# Altium schematic symbol library Power.SchLib: 24 symbols
Pins are listed as number, name and electrical type; pins without a type are passive.

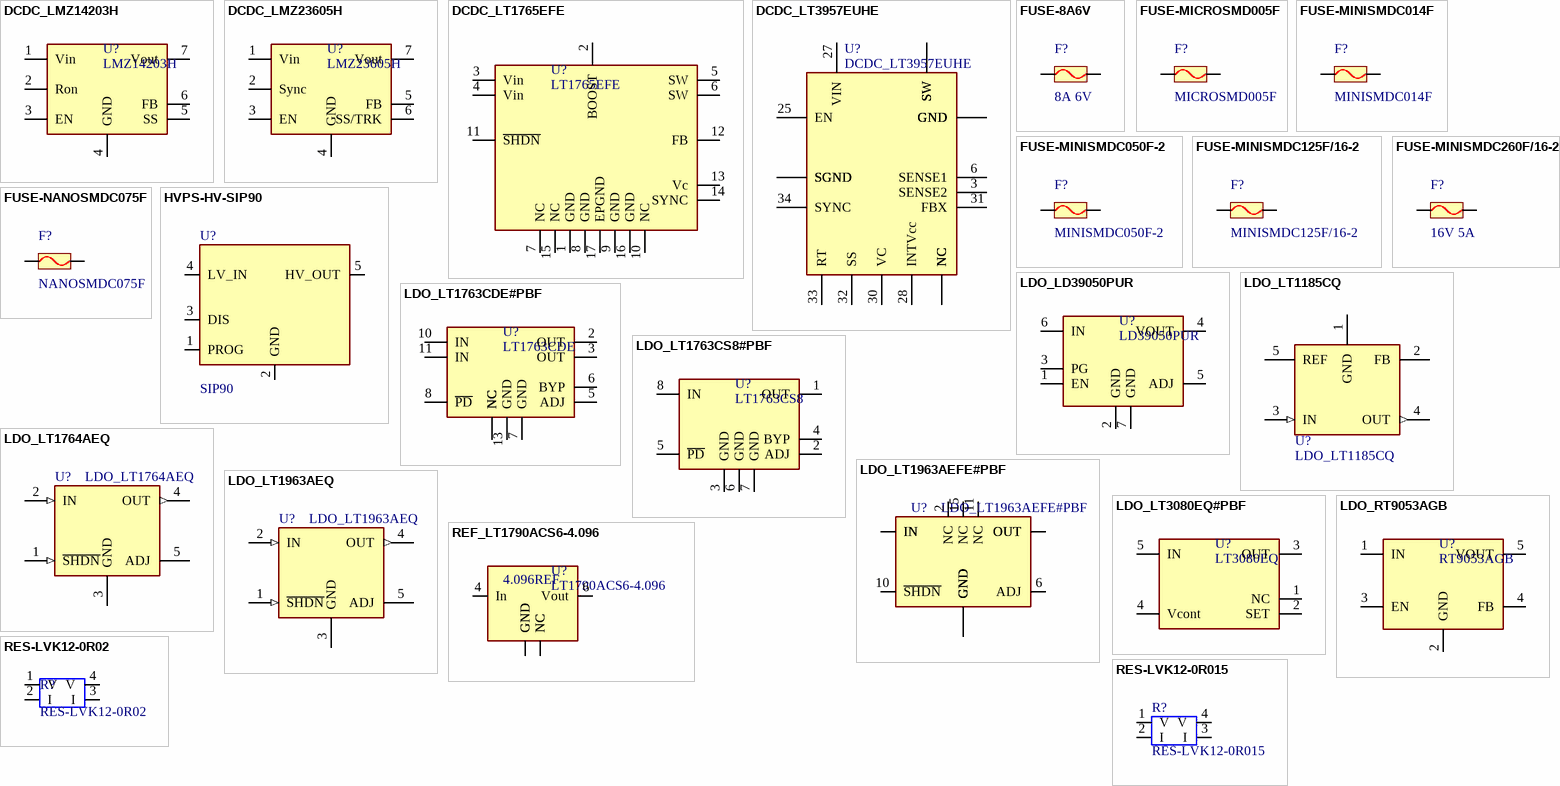
[diagram p0: symbols DCDC_LMZ14203H to RES-LVK12-0R015]

## DCDC_LMZ14203H
designator U?, comment LMZ14203H
3A SIMPLE SWITCHER® Power Module for High Output Voltage; Manufacturer: Texas Instruments; Manufacturer No: LMZ14203HTZ/NOPB; Tech: SMDR; Package: DDPAK7; Supplier 1: Digi-Key; Supplier Part Number 1: LMZ14203HTZE/NOPB-ND; Supplier 2: Mouser; Supplier Part Number 2: 926-LMZ14203HTZ/NOPB
footprint DPAK127P1377X457-7N (D2-PAK, 7-Pads, Body 8.15x8.56mm (max), IPC Medium Density)
pins: 1 Vin, 2 Ron, 3 EN, 4 GND, 5 SS, 6 FB, 7 Vout

## DCDC_LMZ23605H
designator U?, comment LMZ23605H
3A SIMPLE SWITCHER® Power Module for High Output Voltage; Manufacturer: Texas Instruments; Manufacturer No: LMZ23605TZE/NOPB; Tech: SMDR; Package: DDPAK7; Supplier 1: Mouser; Supplier Part Number 1: 926-LMZ23605TZE/NOPB; Supplier 2: Newark; Supplier Part Number 2: 47T7404; Supplier 3: Digi-Key; Supplier Part Number 3: LMZ23605TZ/NOPB-ND
footprint DPAK127P1377X457-7N (D2-PAK, 7-Pads, Body 8.15x8.56mm (max), IPC Medium Density)
pins: 1 Vin, 2 Sync, 3 EN, 4 GND, 5 FB, 6 SS/TRK, 7 Vout

## DCDC_LT1765EFE
designator U?, comment LT1765EFE
Monolithic 3A, 1.25MHz  Step-Down Switching Regulator; Manufacturer: Linear Technology; Manufacturer No: LT1765EFE#PBF; Sort: 510; Tech: SMDR; Package: TSSOP16; Supplier 1: Newark; Supplier Part Number 1: 57M6199; Supplier 2: Digi-Key; Supplier Part Number 2: LT1765EFE#PBF-ND
footprint TSOP65P640X120_HS-16N2 (TSOP, 16-Leads, Body 5,1x4,5mm (max), Pitch 0,65mm, IPC Medium Density)
pins: 1 GND, 2 BOOST, 3 Vin, 4 Vin, 5 SW, 6 SW, 7 NC, 8 GND, 9 GND, 10 NC, 11 ~{SHDN}, 12 FB, 13 Vc, 14 SYNC, 15 NC, 16 GND, 17 EPGND

## DCDC_LT3957EUHE
designator U?
5A Boost/Inverting DC/DC converter; Manufacturer: Linear Technology; Manufacturer No: LT3957EUHE#PBF; Comment2: 3-40Vin, 1.6-40Vout; 5Asw 0.1..1MHz; Tech: SMDR; Package: QFN36; Supplier 1: Digi-Key; Supplier Part Number 1: LT3957EUHE#PBF-ND; Supplier 2: Newark; Supplier Part Number 2: 78R8462
footprint QFN50P600X500X75-36N (QFN, 36-Leads, Body 6,0x5,0mm (max), Pitch 0,50mm, IPC Medium Density)
pins: 1 NC, 2 NC, 3 SENSE2, 4 SGND, 6 SENSE1, 8 SW, 9 SW, 10 NC, 12 GND, 13 GND, 14 GND, 15 GND, 16 GND, 17 GND, 20 SW, 21 SW, 23 SGND, 24 SGND, 25 EN, 27 VIN, 28 INTVcc, 30 VC, 31 FBX, 32 SS, 33 RT, 34 SYNC, 35 NC, 36 NC, 37 SGND, 38 SW

## FUSE-8A6V
designator F?, comment 8A 6V
Fuse 8A 6V SMDR; Manufacturer: Littelfuse; Manufacturer No: 1206L400SLWR; Package: Chip SMD 1206; Tech: SMDR; Supplier 1: Digi-Key; Supplier Part Number 1: F5786CT-ND; Supplier 2: Newark; Supplier Part Number 2: 69W6451; Supplier 3: Mouser; Supplier Part Number 3: 576-1206L400SLWR
simulation model RESISTOR (Resistor)
signal-integrity model Res
footprint FUSE1206-1 (Chip Fuse, Body 3.2x1.6mm)
pins: 1, 2

## FUSE-MICROSMD005F
designator F?, comment MICROSMD005F
PolySwitch Fuse SMD 1210 30V 0.05A; Manufacturer: Tyco; Tech: SMDR; Package: Chip Fuse 3225; Manufacturer No: MICROSMD005F; Supplier 1: Digi-Key; Supplier Part Number 1: MICROSMD005FCT-ND; Supplier 2: Newark; Supplier Part Number 2: 69K7997; Supplier 3: Mouser; Supplier Part Number 3: 650-MICROSMD005F-2
simulation model RESISTOR (Resistor)
signal-integrity model Res
footprint FUSE3225-1 (Chip Fuse, Body 3.2x2.5mm)
pins: 1, 2

## FUSE-MINISMDC014F
designator F?, comment MINISMDC014F
PolySwitch Fuse SMD 60V 10A; Manufacturer: Tyco; Tech: SMDR; Package: Chip Fuse 4532; Manufacturer No: MINISMDC014F; Supplier 1: Newark; Supplier Part Number 1: 69K8005; Supplier 2: Digi-Key; Supplier Part Number 2: MINISMDC014FCT-ND; Supplier 3: Mouser; Supplier Part Number 3: 650-MINISMDC014F-2
simulation model RESISTOR (Resistor)
signal-integrity model Res
footprint FUSE4532-1 (Chip Fuse, Body 4.5x3.2mm)
pins: 1, 2

## FUSE-MINISMDC050F-2
designator F?, comment MINISMDC050F-2
PolySwitch Fuse SMD 1812 24V 0.5Ah 1.0At; Manufacturer: Tyco; Tech: SMDR; Package: Chip Fuse 4532; Manufacturer No: MINISMDC050F-2; Supplier 1: Digi-Key; Supplier Part Number 1: MINISMDC050FCT-ND; Supplier 2: Mouser; Supplier Part Number 2: 650-MINISMDC050F-2; Supplier 3: Newark; Supplier Part Number 3: 69K8007
simulation model RESISTOR (Resistor)
signal-integrity model Res
footprint FUSE4532-1 (Chip Fuse, Body 4.5x3.2mm)
pins: 1, 2

## FUSE-MINISMDC125F/16-2
designator F?, comment MINISMDC125F/16-2
PolySwitch Fuse SMD 1812 16V 1.25Ahold 2.5Atrip; Manufacturer: TE Connectivity; Tech: SMDR; TripC: 2.5A; HoldC: 1.25A; Package: Chip Fuse 1812 (4532); Manufacturer No: MINISMDC125F/16-2; Supplier 1: Digi-Key; Supplier Part Number 1: MINISMDC050FCT-ND; Supplier 2: Mouser; Supplier Part Number 2: 650-MINISMDC050F-2; Supplier 3: Newark; Supplier Part Number 3: 69K8007
simulation model RESISTOR (Resistor)
signal-integrity model Res
footprint FUSE4532-1 (Chip Fuse, Body 4.5x3.2mm)
pins: 1, 2

## FUSE-MINISMDC260F/16-2
designator F?, comment 16V 5A
PolySwitch Fuse SMD 1812 16V 5A; Manufacturer: TE Connectivity; Manufacturer No: MINISMDC260F/16-2; Tech: SMDR; Package: Chip Fuse 1812; Supplier 1: Mouser; Supplier Part Number 1: 650-MINISMDC260F/162; Supplier 2: Newark; Supplier Part Number 2: 45Y6034; Supplier 3: Digi-Key; Supplier Part Number 3: MINISMDC260F/16CT-ND
simulation model RESISTOR (Resistor)
signal-integrity model Res
footprint FUSE4532-1 (Chip Fuse, Body 4.5x3.2mm)
pins: 1, 2

## FUSE-NANOSMDC075F
designator F?, comment NANOSMDC075F
Fuse NANOSMD 0.75A fast; Manufacturer: TE; Tech: SMDR; Package: FUSE3216; Manufacturer No: NANOSMDC075F; Supplier 1: Mouser; Supplier Part Number 1: 650-NANOSMDC075F-2; Supplier 2: Digi-Key; Supplier Part Number 2: NANOSMDC075F-2CT-ND; Supplier 3: Newark; Supplier Part Number 3: 69K8027
simulation model RESISTOR (Resistor)
footprint FUSE3216-1 (Chip Fuse, Body 3.2x1.6mm)
pins: 1, 2

## HVPS-HV-SIP90
designator U?, comment SIP90
Regulated, Low Ripple High Voltage DC/DC Converter; Manufacturer: Emco; Comment2: 3-6.7V Vin, 25-90 VDC, 1mA max; Tech: TMDW; Manufacturer No: SIP90; Package: SIP90; Supplier 1: EMCO; Supplier Part Number 1: SIP90; Supplier Unit Price 1: *
footprint SIP90 (SIP90 Emco HV Power supply)
pins: 1 PROG, 2 GND, 3 DIS, 4 LV_IN, 5 HV_OUT

## LDO_LD39050PUR
designator U?, comment LD39050PUR
500mA, Low Noise, LDO Adj. from 0.8V; Manufacturer: STMicroelectronics; Tech: SMDR; Manufacturer No: LD39050PUR; Package: DFN-6; Supplier No: 1028-1180-1-ND; Supplier 1: Mouser; Supplier Part Number 1: 511-LD39050PUR; Supplier 2: Newark; Supplier Part Number 2: 09R4837; Supplier 3: Digi-Key; Supplier Part Number 3: 497-8717-6-ND
footprint SON95P300X100_HS-7N (SON, 6-Leads, Body 3,00x3,00mm, Pitch 0,95mm, Thermal Pad 2,37x1,49mm, IPC Medium Density)
pins: 1 EN, 2 GND, 3 PG, 4 VOUT, 5 ADJ, 6 IN, 7 GND

## LDO_LT1185CQ
designator U?
Negative Low drop regulator 3A; Manufacturer: Linear Technologies, Farnell; Manufacturer No: LT1185CQ#PBF; Comment2: adjVout 30Vin 3A 0.75Vdrop; Tech: SMDR; Package: DDPak5; Supplier 1: Digi-Key; Supplier Part Number 1: LT1185CQ#PBF-ND; Supplier 2: Newark; Supplier Part Number 2: 57M2580
footprint DDPAK
pins: 1 GND (power), 2 FB, 3 IN (in), 4 OUT (out), 5 REF

## LDO_LT1763CDE#PBF
designator U?, comment LT1763CDE
500mA, Low Noise, LDO DFN; Manufacturer: Linear Technology; Manufacturer No: LT1763CDE#PBF; Tech: SMDR; Package: DFN; Supplier: Digi-Key; Supplier No: LT1763CS8#PBF-ND; Supplier 1: Newark; Supplier Part Number 1: 57M6039; Supplier 2: Digi-Key; Supplier Part Number 2: LT1763CDE#PBF-ND
footprint DFN50P300X400X75EP170-12N (DFN, 12-Leads, Body 4,0x3,0mm (max), Pitch 0,50mm, IPC Medium Density)
pins: 1 NC, 2 OUT, 3 OUT, 4 NC, 5 ADJ, 6 BYP, 7 GND, 8 ~{PD}, 9 NC, 10 IN, 11 IN, 12 NC, 13 GND

## LDO_LT1763CS8#PBF
designator U?, comment LT1763CS8
500mA, Low Noise, LDO; Manufacturer: Linear Technology; Manufacturer No: LT1763CS8#PBF; Tech: SMDR; Package: SOIC8; Supplier: Digi-Key; Supplier No: LT1763CS8#PBF-ND; Supplier 1: Digi-Key; Supplier Part Number 1: LT1763CS8#PBF-ND; Supplier 2: Newark; Supplier Part Number 2: 57M6066; Supplier 3: Digi-Key; Supplier Part Number 3: LT1763CS8#TRPBFCT-ND
footprint SOIC8-1
pins: 1 OUT, 2 ADJ, 3 GND, 4 BYP, 5 ~{PD}, 6 GND, 7 GND, 8 IN

## LDO_LT1764AEQ
designator U?
Low drop low noise regulator 3A  DDPak; Manufacturer: Linear Technology; Manufacturer No: LT1764AEQ#TRPBF; Comment2: 3A, 1.21 to 20Vout,; Tech: SMDR; Package: DDPak5; Supplier 1: Mouser; Supplier Part Number 1: 511-LD29300P2MTR; Supplier 2: Digi-Key; Supplier Part Number 2: LT1764AEQ#PBF-ND
footprint DDPAK
pins: 1 ~{SHDN} (in), 2 IN (in), 3 GND (power), 4 OUT (out), 5 ADJ (hiz)

## LDO_LT1963AEFE#PBF
designator U?
Low drop low noise regulator 1.5A  TSSOP16; Manufacturer: Linear Technology; Comment2: 1.5A, 1.21 to 20Vout,; Tech: SMDR; Manufacturer No: LT1963AEFE#PBF; Package: TSSOP16-EP; Supplier 1: Newark; Supplier Part Number 1: 57M7424; Supplier 2: Digi-Key; Supplier Part Number 2: LT1963AEFE#PBF-ND
footprint TSOP65P640X120_HS-16N2 (TSOP, 16-Leads, Body 5,1x4,5mm (max), Pitch 0,65mm, IPC Medium Density)
pins: 1 GND (power), 2 NC (power), 3 OUT (power), 4 OUT (power), 5 OUT (power), 6 ADJ (power), 7 GND (power), 8 GND (power), 9 GND (power), 10 ~{SHDN} (power), 11 NC (power), 12 IN (power), 13 IN (power), 14 IN (power), 15 NC (power), 16 GND (power), 17 GND (power)

## LDO_LT1963AEQ
designator U?
Low drop low noise regulator 1.5A  DDPak; Manufacturer: Linear Technology; Manufacturer No: LT1963AEQ#TRPBF; Comment2: 1.5A, 1.21 to 20Vout,; Tech: SMDR; Package: DDPak5; Supplier 1: Newark; Supplier Part Number 1: 57M7445; Supplier 2: Digi-Key; Supplier Part Number 2: LT1963AEQ#TRPBFCT-ND
footprint DDPAK
pins: 1 ~{SHDN} (in), 2 IN (in), 3 GND (power), 4 OUT (out), 5 ADJ (hiz)

## LDO_LT3080EQ#PBF
designator U?, comment LT3080EQ
1.1A, Low Noise, LDO; Manufacturer: Linear Technology; Manufacturer No: LT3080EQ#PBF; Tech: SMDR; Package: DDPAK-5; Supplier: Digi-Key; Supplier 1: Newark; Supplier Part Number 1: 24R3350; Supplier 2: Digi-Key; Supplier Part Number 2: LT3080EQ#PBF-ND
footprint TO263-5
pins: 1 NC, 2 SET, 3 OUT, 4 Vcont, 5 IN

## LDO_RT9053AGB
designator U?, comment RT9053AGB
400mA, Low Noise, LDO; Manufacturer: Richtek; Sort: 510; Tech: SMDR; Manufacturer No: RT9053AGB; Package: SOT23-5; Price: 0.49; Supplier: Digi-Key; Supplier No: 1028-1180-1-ND; Supplier 1: Digi-Key; Supplier Part Number 1: 1028-1180-1-ND
footprint SOT23-5
pins: 1 IN, 2 GND, 3 EN, 4 FB, 5 VOUT

## REF_LT1790ACS6-4.096
designator U?, comment LT1790ACS6-4.096
Reference 4.096V 10ppm 5mA; Manufacturer: Linear Technology; Manufacturer No: LT1790ACS6-4.096#TRMPBF; Tech: SMDR; Package: SOT23-6; Supplier No: 1028-1180-1-ND; Supplier 1: Digi-Key; Supplier Part Number 1: LT1790ACS6-4.096#TRMPBFCT-ND; Supplier 2: Newark; Supplier Part Number 2: 57M6508
footprint SOT23-6
pins: 1 GND, 2 GND, 3 NC, 4 In, 5 NC, 6 Vout
text: 4.096REF

## RES-LVK12-0R02
designator R?
Precision Current Sense Resistor 0.5W 0.5% 50ppm; Manufacturer: Ohmite; Manufacturer No: LVK12R020DER; Tech: SMDR; Package: Res Chip 1206; Supplier 1: Newark; Supplier Part Number 1: 47M0567; Supplier 2: Mouser; Supplier Part Number 2: 588-LVK12R020DER; Supplier 3: Digi-Key; Supplier Part Number 3: LVK12R020DERCT-ND
simulation model RESISTOR (Resistor)
signal-integrity model Res
footprint RC1206-2 (Chip resistor 1206)
pins: 1 V, 2 I, 3 I, 4 V

## RES-LVK12-0R015
designator R?
Precision Current Sense Resistor 0.75W 1% 50ppm; Manufacturer: Ohmite; Manufacturer No: LVK20R015FER; Tech: SMDR; Package: Res Chip 2010; Supplier 1: Mouser; Supplier Part Number 1: 588-LVK20R015FER; Supplier 2: Newark; Supplier Part Number 2: 53X1037; Supplier 3: Digi-Key; Supplier Part Number 3: LVK20R015FERCT-ND
simulation model RESISTOR (Resistor)
signal-integrity model Res
footprint RC2010-2 (Chip resistor 2010)
pins: 1 V, 2 I, 3 I, 4 V